# EAGLE library part MOLEX_MINIFIT-20 (library molex_mini-fit)
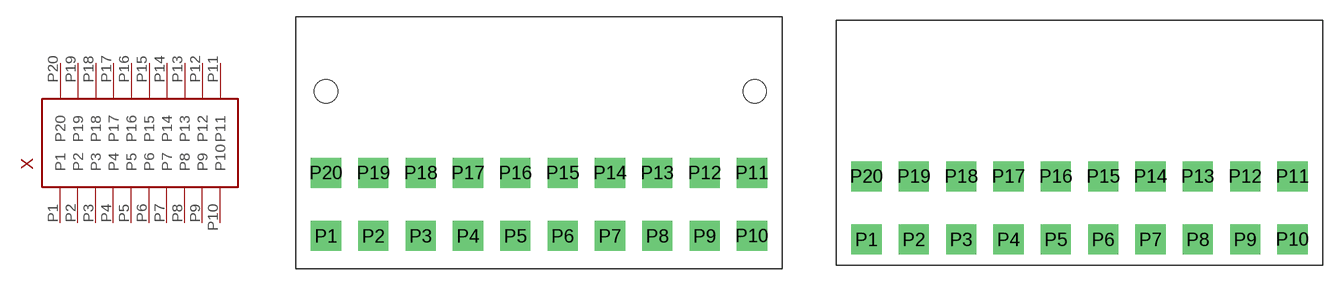
[diagram p4: symbol with the pads of MOLEX_MINIFIT-20; footprints MOLEX_MINIFIT-20, MOLEX_MINIFIT-20_NO_PEG]

Designator prefix X

## MOLEX_MINIFIT-20PEG  [MOLEX_MINIFIT-20]
P1  P1
P2  P2
P3  P3
P4  P4
P5  P5
P6  P6
P7  P7
P8  P8
P9  P9
P10  P10
P11  P11
P12  P12
P13  P13
P14  P14
P15  P15
P16  P16
P17  P17
P18  P18
P19  P19
P20  P20

## MOLEX_MINIFIT-20NO_PEG  [MOLEX_MINIFIT-20_NO_PEG]
Pads as for MOLEX_MINIFIT-20

## Footprint MOLEX_MINIFIT-20 (pad centres in mm)
drill 1.778 pad 2.54 square: P1 -18.923,-2.794; P2 -14.732,-2.794; P3 -10.541,-2.794; P4 -6.35,-2.794; P5 -2.159,-2.794; P6 2.032,-2.794; P7 6.223,-2.794; P8 10.414,-2.794; P9 14.605,-2.794; P10 18.796,-2.794; P11 18.796,2.794; P12 14.605,2.794; P13 10.414,2.794; P14 6.223,2.794; P15 2.032,2.794; P16 -2.159,2.794; P17 -6.35,2.794; P18 -10.541,2.794; P19 -14.732,2.794; P20 -18.923,2.794
hole 2.057 at -18.923,10.033
hole 2.057 at 19.05,10.033

## Footprint MOLEX_MINIFIT-20_NO_PEG (pad centres in mm)
drill 1.778 pad 2.54 square: P1 -18.923,-2.794; P2 -14.732,-2.794; P3 -10.541,-2.794; P4 -6.35,-2.794; P5 -2.159,-2.794; P6 2.032,-2.794; P7 6.223,-2.794; P8 10.414,-2.794; P9 14.605,-2.794; P10 18.796,-2.794; P11 18.796,2.794; P12 14.605,2.794; P13 10.414,2.794; P14 6.223,2.794; P15 2.032,2.794; P16 -2.159,2.794; P17 -6.35,2.794; P18 -10.541,2.794; P19 -14.732,2.794; P20 -18.923,2.794